# Altium schematic symbol library 2-Batteries 电池&盒.SchLib: 10 symbols
Pins are listed as number, name and electrical type; pins without a type are passive.

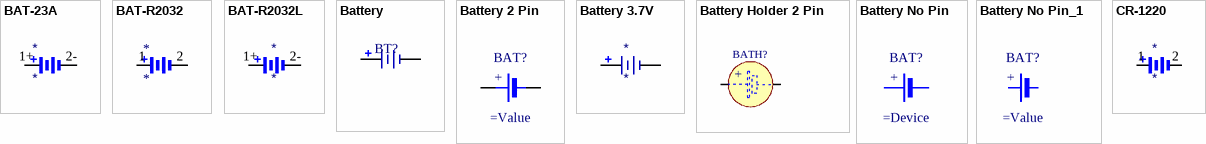
[diagram p0: symbols BAT-23A to CR-1220]

## BAT-23A
designator *
footprint BAT-23A
pins: 1+ +, 2- -

## BAT-R2032
designator *
footprint CR-2032 CCR2003
pins: 1 +, 2 -

## BAT-R2032L
designator *
footprint BATH_KEYSTONE_3000 (SMD Battery Holders for BR1216, CR1216, BR1220, CL1220, CR1220, BR1225 Coin Cells)
pins: 1+ +, 2- -

## Battery
designator BT?
Multicell Battery; Published: 24-Mar-1999; LatestRevisionDate: 17-Jul-2002; LatestRevisionNote: Re-released for DXP Platform.; PackageReference: BAT-2; Publisher: Altium Limited
pins: 1 +, 2 -

## Battery 2 Pin
designator BAT?
Battery 2 Pin
pins: 1 PLUS (power), 2 MINUS (power)
text: +

## Battery 3.7V
designator *
footprint CSG-A0B00RS002AA
pins: 1 +, 2 -

## Battery Holder 2 Pin
designator BATH?
Battery Holder whit 2 Pin
pins: 1 PLUS (power), 2 MINUS (power)
text: +

## Battery No Pin
designator BAT?
Battery for use only with Socket Holder
text: +

## Battery No Pin_1
designator BAT?
Battery Without pin for Socket
text: +

## CR-1220
designator *
footprint CR-1220
pins: 1 +, 2 -